# EAGLE library part SFV12R-1STE1LF (library FCI-tkr)
FFC/FPC CONNECTOR, RECEPTACLE 12POS 1ROW
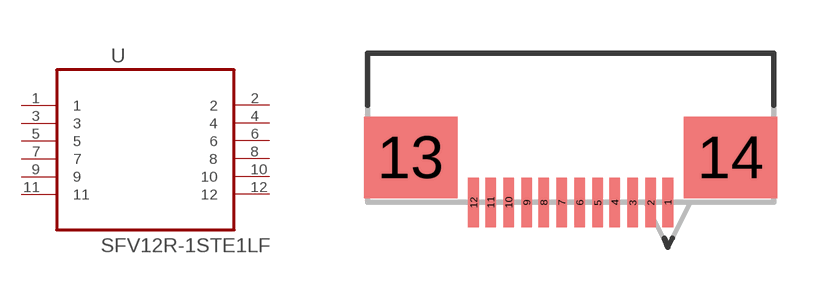
[diagram p44: symbol with the pads of FCI_SFV12R-1STE1LF; footprint FCI_SFV12R-1STE1LF]

Designator prefix U

## SFV12R-1STE1LF (MPN: SFV12R-1STE1LF; OC_FARNELL: -; OC_NEWARK: 62K5567; PACKAGE: CONNECTOR - 12POS; SUPPLIER: FCI)  [FCI_SFV12R-1STE1LF]
1  1  pas
2  2  pas
3  3  pas
4  4  pas
5  5  pas
6  6  pas
7  7  pas
8  8  pas
9  9  pas
10  10  pas
11  11  pas
12  12  pas

## Footprint FCI_SFV12R-1STE1LF (pad centres in mm)
smd 0.305 x 1.397: 1 2.743,2.083; 2 2.261,2.083; 3 1.753,2.083; 4 1.245,2.083; 5 0.762,2.083; 6 0.254,2.083; 7 -0.254,2.083; 8 -0.762,2.083; 9 -1.245,2.083; 10 -1.753,2.083; 11 -2.261,2.083; 12 -2.743,2.083
smd 2.642 x 2.311: 13 -4.521,3.353; 14 4.521,3.353